# Altium integrated library Linear Technology Power Management Switching Regulator LTC1174-LTC3901.IntLib: 2647 symbols (part 94 of 364)
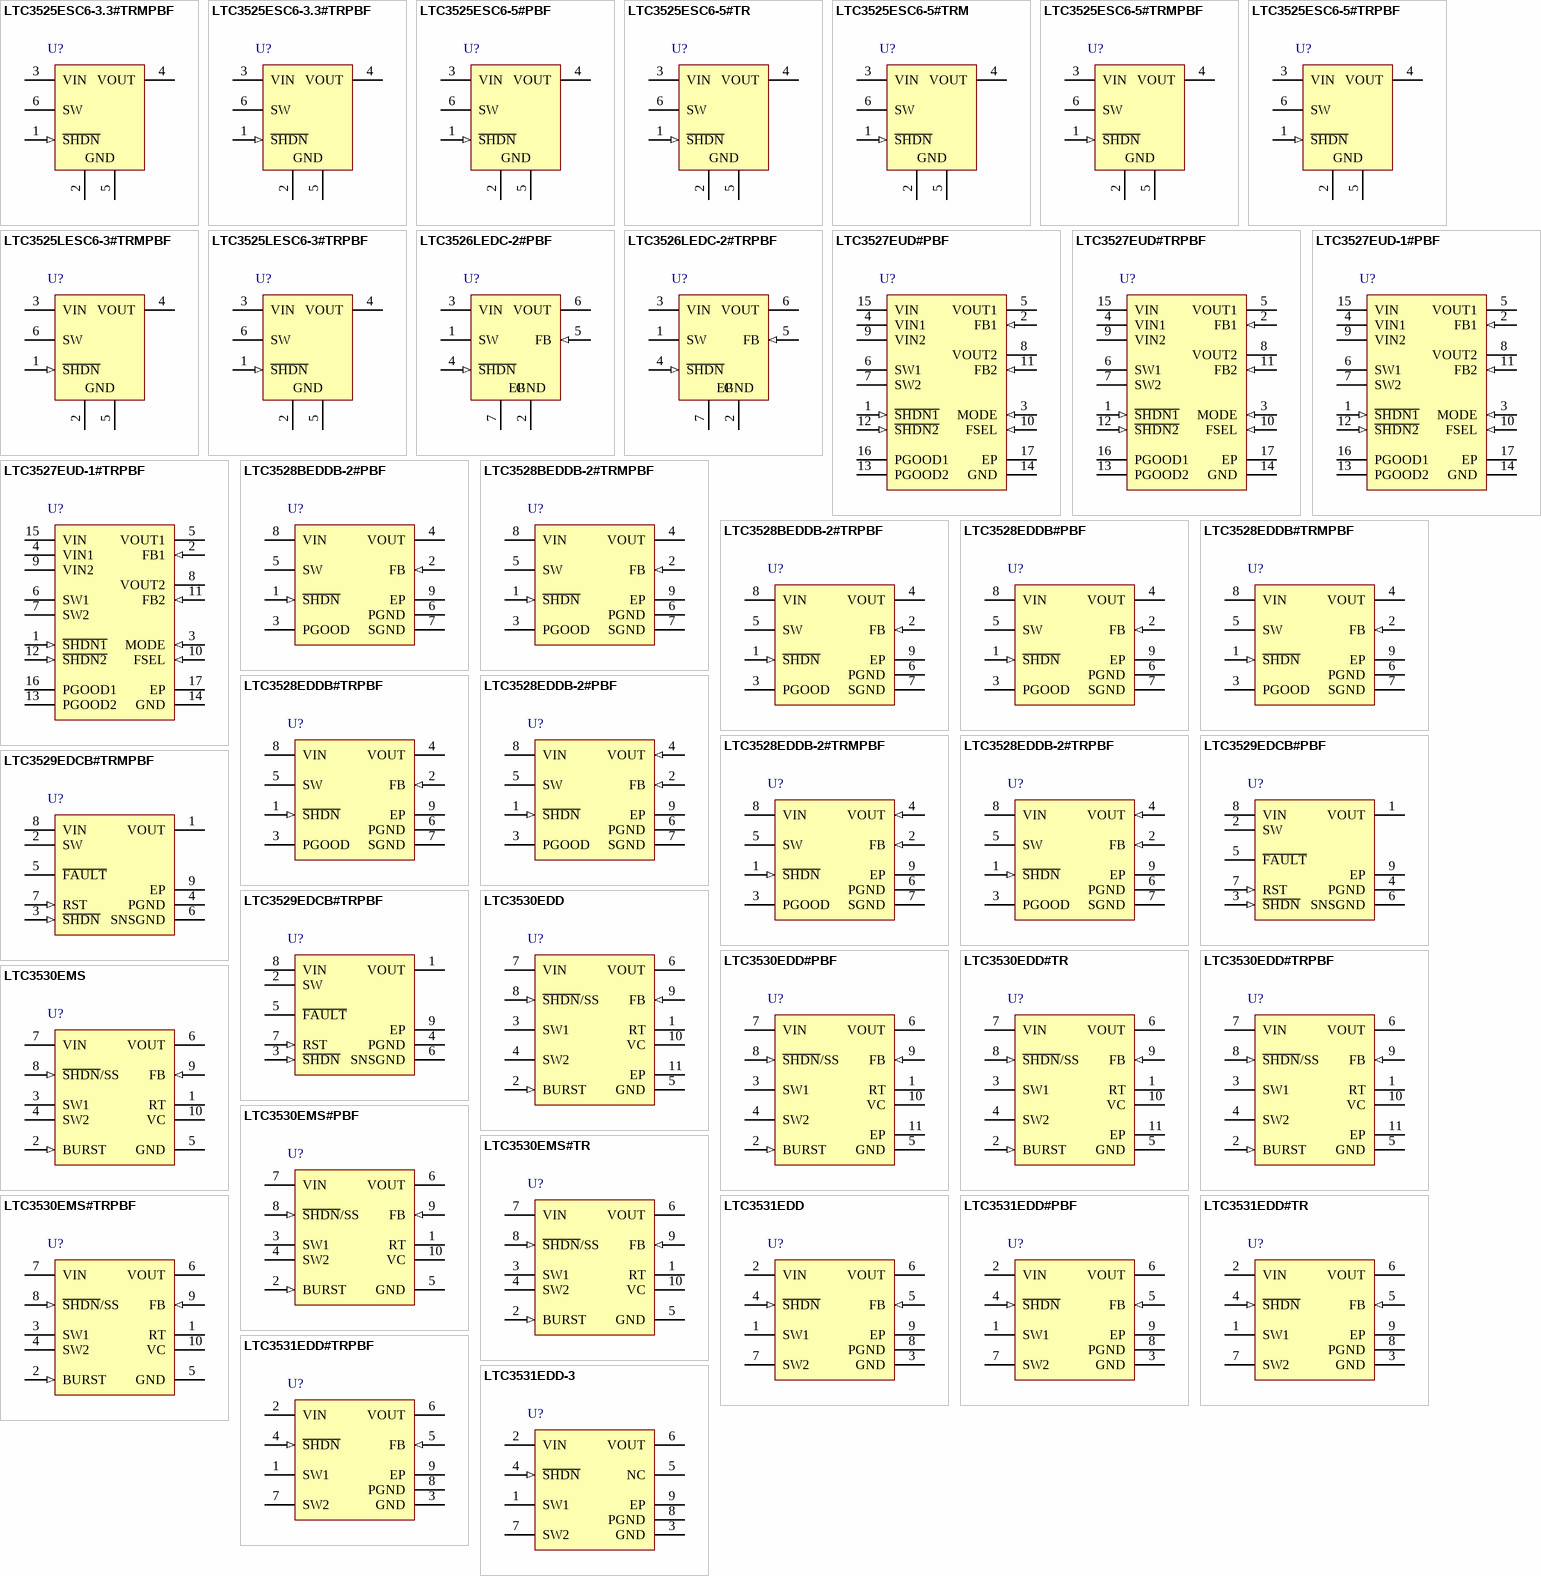
[diagram p163: symbols LTC3525ESC6-3.3#TRMPBF to LTC3531EDD-3]

## LTC3530EMS#PBF
designator U?
Wide Input Voltage Synchronous Buck-Boost DC/DC Converter, 10-pin SOP (MS-10), -40 to 85 degC, Pb-Free; Manufacturer: Linear Technology; PartNumber: LTC3530EMS#PBF; Frequency Adjust Range: 300kHz - 2MHz; Number of Outputs: 1; DatasheetVersion: Rev. B; PackageVersion: Rev. E, 06/2010; PackageReference: MS-10; PackageDescription: 10-Pin Plastic MSOP, Body 3 x 3 mm, Pitch 0.5 mm; Supplier 1: Digi-Key; Supplier Part Number 1: LTC3530EMS#PBF-ND; Supplier 2: Farnell; Supplier Part Number 2: 1329368; Supplier 3: Newark; Supplier Part Number 3: 56M7929; RoHS: TRUE; Mounting Technology: Surface Mount; ComponentLink1Description: Manufacturer URL; ComponentLink1URL: http://www.linear.com/; ComponentLink2Description: Datasheet; ComponentLink2URL: http://cds.linear.com/docs/en/datasheet/3530fb.pdf; ComponentLink3Description: Package Specification; ComponentLink3URL: http://cds.linear.com/docs/en/packaging/05081661_F_MS.pdf
footprint LT-MS-10_N (SOP, 10-Leads, Body 3.1x3.1mm, Pitch 0.5mm, IPC Medium Density)
footprint LT-MS-10_L (SOP, 10-Leads, Body 3.1x3.1mm, Pitch 0.5mm, IPC High Density)
footprint LT-MS-10_M (SOP, 10-Leads, Body 3.1x3.1mm, Pitch 0.5mm, IPC Low Density)
pins: 1 RT, 2 BURST (in) "Used to Set the Automatic Burst Mode Operation Threshold. Place a resistor and capacitor in parallel from this pin to ground. See the Applications Information section for component value selection. For manual control, ground (See Datasheet)", 3 SW1 "Switch Pin Where the Internal Switches A and B are Connected. Connect inductor from SW1 to SW2. An optional Schottky diode can be connected from SW1 to ground. Minimize trace length to minimize EMI.", 4 SW2 "Switch Pin Where the Internal Switches C and D are Connected. For applications with output voltages over 4.3V, a Schottky diode is required from SW2 to VOUT to ensure SW2 does not exhibit excess voltage.", 5 GND (power) "Signal and Power Ground for the IC.", 6 VOUT (power) "Output of the Synchronous Rectifier. A filter capacitor is placed from VOUT to GND.", 7 VIN (power) "Input Supply Pin. Supplies current to the inductor through SW1 and supplies internal VCC for the IC. A ceramic bypass capacitor as close to the VIN pin and GND (Pin 5) is required.", 8 ~{SHDN}/SS (in), 9 FB (in), 10 VC "Error Amp Output: A frequency compensation network is connected from this pin to the FB pin to compensate the loop. Refer to the Applications Information section for component value selection."

## LTC3530EMS#TR
designator U?
Wide Input Voltage Synchronous Buck-Boost DC/DC Converter, 10-pin SOP (MS-10), -40 to 85 degC, Tape and Reel; Manufacturer: Linear Technology; PartNumber: LTC3530EMS#TR; Frequency Adjust Range: 300kHz - 2MHz; Number of Outputs: 1; DatasheetVersion: Rev. B; PackageVersion: Rev. E, 06/2010; PackageReference: MS-10; PackageDescription: 10-Pin Plastic MSOP, Body 3 x 3 mm, Pitch 0.5 mm; Packing: Tape and Reel; RoHS: FALSE; Mounting Technology: Surface Mount; ComponentLink1Description: Manufacturer URL; ComponentLink1URL: http://www.linear.com/; ComponentLink2Description: Datasheet; ComponentLink2URL: http://cds.linear.com/docs/en/datasheet/3530fb.pdf; ComponentLink3Description: Package Specification; ComponentLink3URL: http://cds.linear.com/docs/en/packaging/05081661_F_MS.pdf
footprint LT-MS-10_N (SOP, 10-Leads, Body 3.1x3.1mm, Pitch 0.5mm, IPC Medium Density)
footprint LT-MS-10_L (SOP, 10-Leads, Body 3.1x3.1mm, Pitch 0.5mm, IPC High Density)
footprint LT-MS-10_M (SOP, 10-Leads, Body 3.1x3.1mm, Pitch 0.5mm, IPC Low Density)
pins: 1 RT, 2 BURST (in) "Used to Set the Automatic Burst Mode Operation Threshold. Place a resistor and capacitor in parallel from this pin to ground. See the Applications Information section for component value selection. For manual control, ground (See Datasheet)", 3 SW1 "Switch Pin Where the Internal Switches A and B are Connected. Connect inductor from SW1 to SW2. An optional Schottky diode can be connected from SW1 to ground. Minimize trace length to minimize EMI.", 4 SW2 "Switch Pin Where the Internal Switches C and D are Connected. For applications with output voltages over 4.3V, a Schottky diode is required from SW2 to VOUT to ensure SW2 does not exhibit excess voltage.", 5 GND (power) "Signal and Power Ground for the IC.", 6 VOUT (power) "Output of the Synchronous Rectifier. A filter capacitor is placed from VOUT to GND.", 7 VIN (power) "Input Supply Pin. Supplies current to the inductor through SW1 and supplies internal VCC for the IC. A ceramic bypass capacitor as close to the VIN pin and GND (Pin 5) is required.", 8 ~{SHDN}/SS (in), 9 FB (in), 10 VC "Error Amp Output: A frequency compensation network is connected from this pin to the FB pin to compensate the loop. Refer to the Applications Information section for component value selection."

## LTC3530EMS#TRPBF
designator U?
Wide Input Voltage Synchronous Buck-Boost DC/DC Converter, 10-pin SOP (MS-10), -40 to 85 degC, Pb-Free, Tape and Reel; Manufacturer: Linear Technology; PartNumber: LTC3530EMS#TRPBF; Frequency Adjust Range: 300kHz - 2MHz; Number of Outputs: 1; DatasheetVersion: Rev. B; PackageVersion: Rev. E, 06/2010; PackageReference: MS-10; PackageDescription: 10-Pin Plastic MSOP, Body 3 x 3 mm, Pitch 0.5 mm; Supplier 1: Digi-Key; Supplier Part Number 1: LTC3530EMS#TRPBF-ND; Supplier 2: Newark; Supplier Part Number 2: 56M7931; Packing: Tape and Reel; RoHS: TRUE; Mounting Technology: Surface Mount; ComponentLink1Description: Manufacturer URL; ComponentLink1URL: http://www.linear.com/; ComponentLink2Description: Datasheet; ComponentLink2URL: http://cds.linear.com/docs/en/datasheet/3530fb.pdf; ComponentLink3Description: Package Specification; ComponentLink3URL: http://cds.linear.com/docs/en/packaging/05081661_F_MS.pdf
footprint LT-MS-10_N (SOP, 10-Leads, Body 3.1x3.1mm, Pitch 0.5mm, IPC Medium Density)
footprint LT-MS-10_L (SOP, 10-Leads, Body 3.1x3.1mm, Pitch 0.5mm, IPC High Density)
footprint LT-MS-10_M (SOP, 10-Leads, Body 3.1x3.1mm, Pitch 0.5mm, IPC Low Density)
pins: 1 RT, 2 BURST (in) "Used to Set the Automatic Burst Mode Operation Threshold. Place a resistor and capacitor in parallel from this pin to ground. See the Applications Information section for component value selection. For manual control, ground (See Datasheet)", 3 SW1 "Switch Pin Where the Internal Switches A and B are Connected. Connect inductor from SW1 to SW2. An optional Schottky diode can be connected from SW1 to ground. Minimize trace length to minimize EMI.", 4 SW2 "Switch Pin Where the Internal Switches C and D are Connected. For applications with output voltages over 4.3V, a Schottky diode is required from SW2 to VOUT to ensure SW2 does not exhibit excess voltage.", 5 GND (power) "Signal and Power Ground for the IC.", 6 VOUT (power) "Output of the Synchronous Rectifier. A filter capacitor is placed from VOUT to GND.", 7 VIN (power) "Input Supply Pin. Supplies current to the inductor through SW1 and supplies internal VCC for the IC. A ceramic bypass capacitor as close to the VIN pin and GND (Pin 5) is required.", 8 ~{SHDN}/SS (in), 9 FB (in), 10 VC "Error Amp Output: A frequency compensation network is connected from this pin to the FB pin to compensate the loop. Refer to the Applications Information section for component value selection."

## LTC3531EDD
designator U?
200 mA Buck-Boost Synchronous DC/DC Converter, 8-pin SON (DD-8), -40 to 85 degC; Manufacturer: Linear Technology; PartNumber: LTC3531EDD; Number of Outputs: 1; DatasheetVersion: Rev. B; PackageVersion: Jun-10; PackageReference: DD-8; PackageDescription: 8-Pin Plastic DFN, Body 3 x 3 mm, Pitch 0.5 mm; RoHS: FALSE; Mounting Technology: Surface Mount; Code_JEDEC: MO-229; ComponentLink1Description: Manufacturer URL; ComponentLink1URL: http://www.linear.com/; ComponentLink2Description: Datasheet; ComponentLink2URL: http://cds.linear.com/docs/en/datasheet/3531fb.pdf; ComponentLink3Description: Package Specification; ComponentLink3URL: http://cds.linear.com/docs/en/packaging/DFN_8_05-08-1698.pdf
footprint LT-DD-8_V (SON, 8-Leads, Body 3x3mm, Pitch 0.5mm, Thermal Pad 1.65x2.38 mm)
pins: 1 SW1 "Buck-Boost Switch Pin Where Internal Switches A and B are Connected. Connect the inductor from SW1 to SW2.", 2 VIN (power) "Input Supply Pin for the Buck-Boost Converter. A minimum 2.2uF Ceramic Capacitor should be placed between VIN and GND.", 3 GND (power) "Signal Ground for the IC.", 4 ~{SHDN} (in) "External Shutdown Pin. An applied voltage of < 0.4V shuts down the converter. A voltage above >1.4V will enable the converter.", 5 FB (in) "Feedback Pin for the Adjustable Version. Connect the resistor divider tap here. The output voltage can be adjusted from 2V to 5V.", 6 VOUT (power) "Output of the Buck-Boost Synchronous Rectifier. A filter capacitor is placed from VOUT to GND. A ceramic bypass capacitor is recommended as close to the VOUT and GND pins as possible.", 7 SW2 "Buck-Boost Switch Pin Where Internal Switches C and D are Connected. An optional Schottky diode can be connected from SW2 to VOUT for a moderate efficiency improvement. Minimize trace length to keep EMI down.", 8 PGND (power) "Power Ground for the IC. (Shared on ThinSOT version)", 9 EP (power) "Solder to PCB ground for optimal thermal performance."

## LTC3531EDD#PBF
designator U?
200 mA Buck-Boost Synchronous DC/DC Converter, 8-pin SON (DD-8), -40 to 85 degC, Pb-Free; Manufacturer: Linear Technology; PartNumber: LTC3531EDD#PBF; Number of Outputs: 1; DatasheetVersion: Rev. B; PackageVersion: Jun-10; PackageReference: DD-8; PackageDescription: 8-Pin Plastic DFN, Body 3 x 3 mm, Pitch 0.5 mm; Supplier 1: Digi-Key; Supplier Part Number 1: LTC3531EDD#PBF-ND; Supplier 2: Farnell; Supplier Part Number 2: 1663711; Supplier 3: Newark; Supplier Part Number 3: 56M7941; RoHS: TRUE; Mounting Technology: Surface Mount; Code_JEDEC: MO-229; ComponentLink1Description: Manufacturer URL; ComponentLink1URL: http://www.linear.com/; ComponentLink2Description: Datasheet; ComponentLink2URL: http://cds.linear.com/docs/en/datasheet/3531fb.pdf; ComponentLink3Description: Package Specification; ComponentLink3URL: http://cds.linear.com/docs/en/packaging/DFN_8_05-08-1698.pdf
footprint LT-DD-8_V (SON, 8-Leads, Body 3x3mm, Pitch 0.5mm, Thermal Pad 1.65x2.38 mm)
pins: 1 SW1 "Buck-Boost Switch Pin Where Internal Switches A and B are Connected. Connect the inductor from SW1 to SW2.", 2 VIN (power) "Input Supply Pin for the Buck-Boost Converter. A minimum 2.2uF Ceramic Capacitor should be placed between VIN and GND.", 3 GND (power) "Signal Ground for the IC.", 4 ~{SHDN} (in) "External Shutdown Pin. An applied voltage of < 0.4V shuts down the converter. A voltage above >1.4V will enable the converter.", 5 FB (in) "Feedback Pin for the Adjustable Version. Connect the resistor divider tap here. The output voltage can be adjusted from 2V to 5V.", 6 VOUT (power) "Output of the Buck-Boost Synchronous Rectifier. A filter capacitor is placed from VOUT to GND. A ceramic bypass capacitor is recommended as close to the VOUT and GND pins as possible.", 7 SW2 "Buck-Boost Switch Pin Where Internal Switches C and D are Connected. An optional Schottky diode can be connected from SW2 to VOUT for a moderate efficiency improvement. Minimize trace length to keep EMI down.", 8 PGND (power) "Power Ground for the IC. (Shared on ThinSOT version)", 9 EP (power) "Solder to PCB ground for optimal thermal performance."

## LTC3531EDD#TR
designator U?
200 mA Buck-Boost Synchronous DC/DC Converter, 8-pin SON (DD-8), -40 to 85 degC, Tape and Reel; Manufacturer: Linear Technology; PartNumber: LTC3531EDD#TR; Number of Outputs: 1; DatasheetVersion: Rev. B; PackageVersion: Jun-10; PackageReference: DD-8; PackageDescription: 8-Pin Plastic DFN, Body 3 x 3 mm, Pitch 0.5 mm; Packing: Tape and Reel; RoHS: FALSE; Mounting Technology: Surface Mount; Code_JEDEC: MO-229; ComponentLink1Description: Manufacturer URL; ComponentLink1URL: http://www.linear.com/; ComponentLink2Description: Datasheet; ComponentLink2URL: http://cds.linear.com/docs/en/datasheet/3531fb.pdf; ComponentLink3Description: Package Specification; ComponentLink3URL: http://cds.linear.com/docs/en/packaging/DFN_8_05-08-1698.pdf
footprint LT-DD-8_V (SON, 8-Leads, Body 3x3mm, Pitch 0.5mm, Thermal Pad 1.65x2.38 mm)
pins: 1 SW1 "Buck-Boost Switch Pin Where Internal Switches A and B are Connected. Connect the inductor from SW1 to SW2.", 2 VIN (power) "Input Supply Pin for the Buck-Boost Converter. A minimum 2.2uF Ceramic Capacitor should be placed between VIN and GND.", 3 GND (power) "Signal Ground for the IC.", 4 ~{SHDN} (in) "External Shutdown Pin. An applied voltage of < 0.4V shuts down the converter. A voltage above >1.4V will enable the converter.", 5 FB (in) "Feedback Pin for the Adjustable Version. Connect the resistor divider tap here. The output voltage can be adjusted from 2V to 5V.", 6 VOUT (power) "Output of the Buck-Boost Synchronous Rectifier. A filter capacitor is placed from VOUT to GND. A ceramic bypass capacitor is recommended as close to the VOUT and GND pins as possible.", 7 SW2 "Buck-Boost Switch Pin Where Internal Switches C and D are Connected. An optional Schottky diode can be connected from SW2 to VOUT for a moderate efficiency improvement. Minimize trace length to keep EMI down.", 8 PGND (power) "Power Ground for the IC. (Shared on ThinSOT version)", 9 EP (power) "Solder to PCB ground for optimal thermal performance."

## LTC3531EDD#TRPBF
designator U?
200 mA Buck-Boost Synchronous DC/DC Converter, 8-pin SON (DD-8), -40 to 85 degC, Pb-Free, Tape and Reel; Manufacturer: Linear Technology; PartNumber: LTC3531EDD#TRPBF; Number of Outputs: 1; DatasheetVersion: Rev. B; PackageVersion: Jun-10; PackageReference: DD-8; PackageDescription: 8-Pin Plastic DFN, Body 3 x 3 mm, Pitch 0.5 mm; Supplier 1: Digi-Key; Supplier Part Number 1: LTC3531EDD#TRPBF-ND; Packing: Tape and Reel; RoHS: TRUE; Mounting Technology: Surface Mount; Code_JEDEC: MO-229; ComponentLink1Description: Manufacturer URL; ComponentLink1URL: http://www.linear.com/; ComponentLink2Description: Datasheet; ComponentLink2URL: http://cds.linear.com/docs/en/datasheet/3531fb.pdf; ComponentLink3Description: Package Specification; ComponentLink3URL: http://cds.linear.com/docs/en/packaging/DFN_8_05-08-1698.pdf
footprint LT-DD-8_V (SON, 8-Leads, Body 3x3mm, Pitch 0.5mm, Thermal Pad 1.65x2.38 mm)
pins: 1 SW1 "Buck-Boost Switch Pin Where Internal Switches A and B are Connected. Connect the inductor from SW1 to SW2.", 2 VIN (power) "Input Supply Pin for the Buck-Boost Converter. A minimum 2.2uF Ceramic Capacitor should be placed between VIN and GND.", 3 GND (power) "Signal Ground for the IC.", 4 ~{SHDN} (in) "External Shutdown Pin. An applied voltage of < 0.4V shuts down the converter. A voltage above >1.4V will enable the converter.", 5 FB (in) "Feedback Pin for the Adjustable Version. Connect the resistor divider tap here. The output voltage can be adjusted from 2V to 5V.", 6 VOUT (power) "Output of the Buck-Boost Synchronous Rectifier. A filter capacitor is placed from VOUT to GND. A ceramic bypass capacitor is recommended as close to the VOUT and GND pins as possible.", 7 SW2 "Buck-Boost Switch Pin Where Internal Switches C and D are Connected. An optional Schottky diode can be connected from SW2 to VOUT for a moderate efficiency improvement. Minimize trace length to keep EMI down.", 8 PGND (power) "Power Ground for the IC. (Shared on ThinSOT version)", 9 EP (power) "Solder to PCB ground for optimal thermal performance."

## LTC3531EDD-3
designator U?
200 mA Buck-Boost Synchronous DC/DC Converter, 8-pin SON (DD-8), -40 to 85 degC; Manufacturer: Linear Technology; PartNumber: LTC3531EDD-3; Number of Outputs: 1; DatasheetVersion: Rev. B; PackageVersion: Jun-10; PackageReference: DD-8; PackageDescription: 8-Pin Plastic DFN, Body 3 x 3 mm, Pitch 0.5 mm; RoHS: FALSE; Mounting Technology: Surface Mount; Code_JEDEC: MO-229; ComponentLink1Description: Manufacturer URL; ComponentLink1URL: http://www.linear.com/; ComponentLink2Description: Datasheet; ComponentLink2URL: http://cds.linear.com/docs/en/datasheet/3531fb.pdf; ComponentLink3Description: Package Specification; ComponentLink3URL: http://cds.linear.com/docs/en/packaging/DFN_8_05-08-1698.pdf
footprint LT-DD-8_V (SON, 8-Leads, Body 3x3mm, Pitch 0.5mm, Thermal Pad 1.65x2.38 mm)
pins: 1 SW1 "Buck-Boost Switch Pin Where Internal Switches A and B are Connected. Connect the inductor from SW1 to SW2.", 2 VIN (power) "Input Supply Pin for the Buck-Boost Converter. A minimum 2.2uF Ceramic Capacitor should be placed between VIN and GND.", 3 GND (power) "Signal Ground for the IC.", 4 ~{SHDN} (in) "External Shutdown Pin. An applied voltage of < 0.4V shuts down the converter. A voltage above >1.4V will enable the converter.", 5 NC, 6 VOUT (power) "Output of the Buck-Boost Synchronous Rectifier. A filter capacitor is placed from VOUT to GND. A ceramic bypass capacitor is recommended as close to the VOUT and GND pins as possible.", 7 SW2 "Buck-Boost Switch Pin Where Internal Switches C and D are Connected. An optional Schottky diode can be connected from SW2 to VOUT for a moderate efficiency improvement. Minimize trace length to keep EMI down.", 8 PGND (power) "Power Ground for the IC. (Shared on ThinSOT version)", 9 EP (power) "Solder to PCB ground for optimal thermal performance."

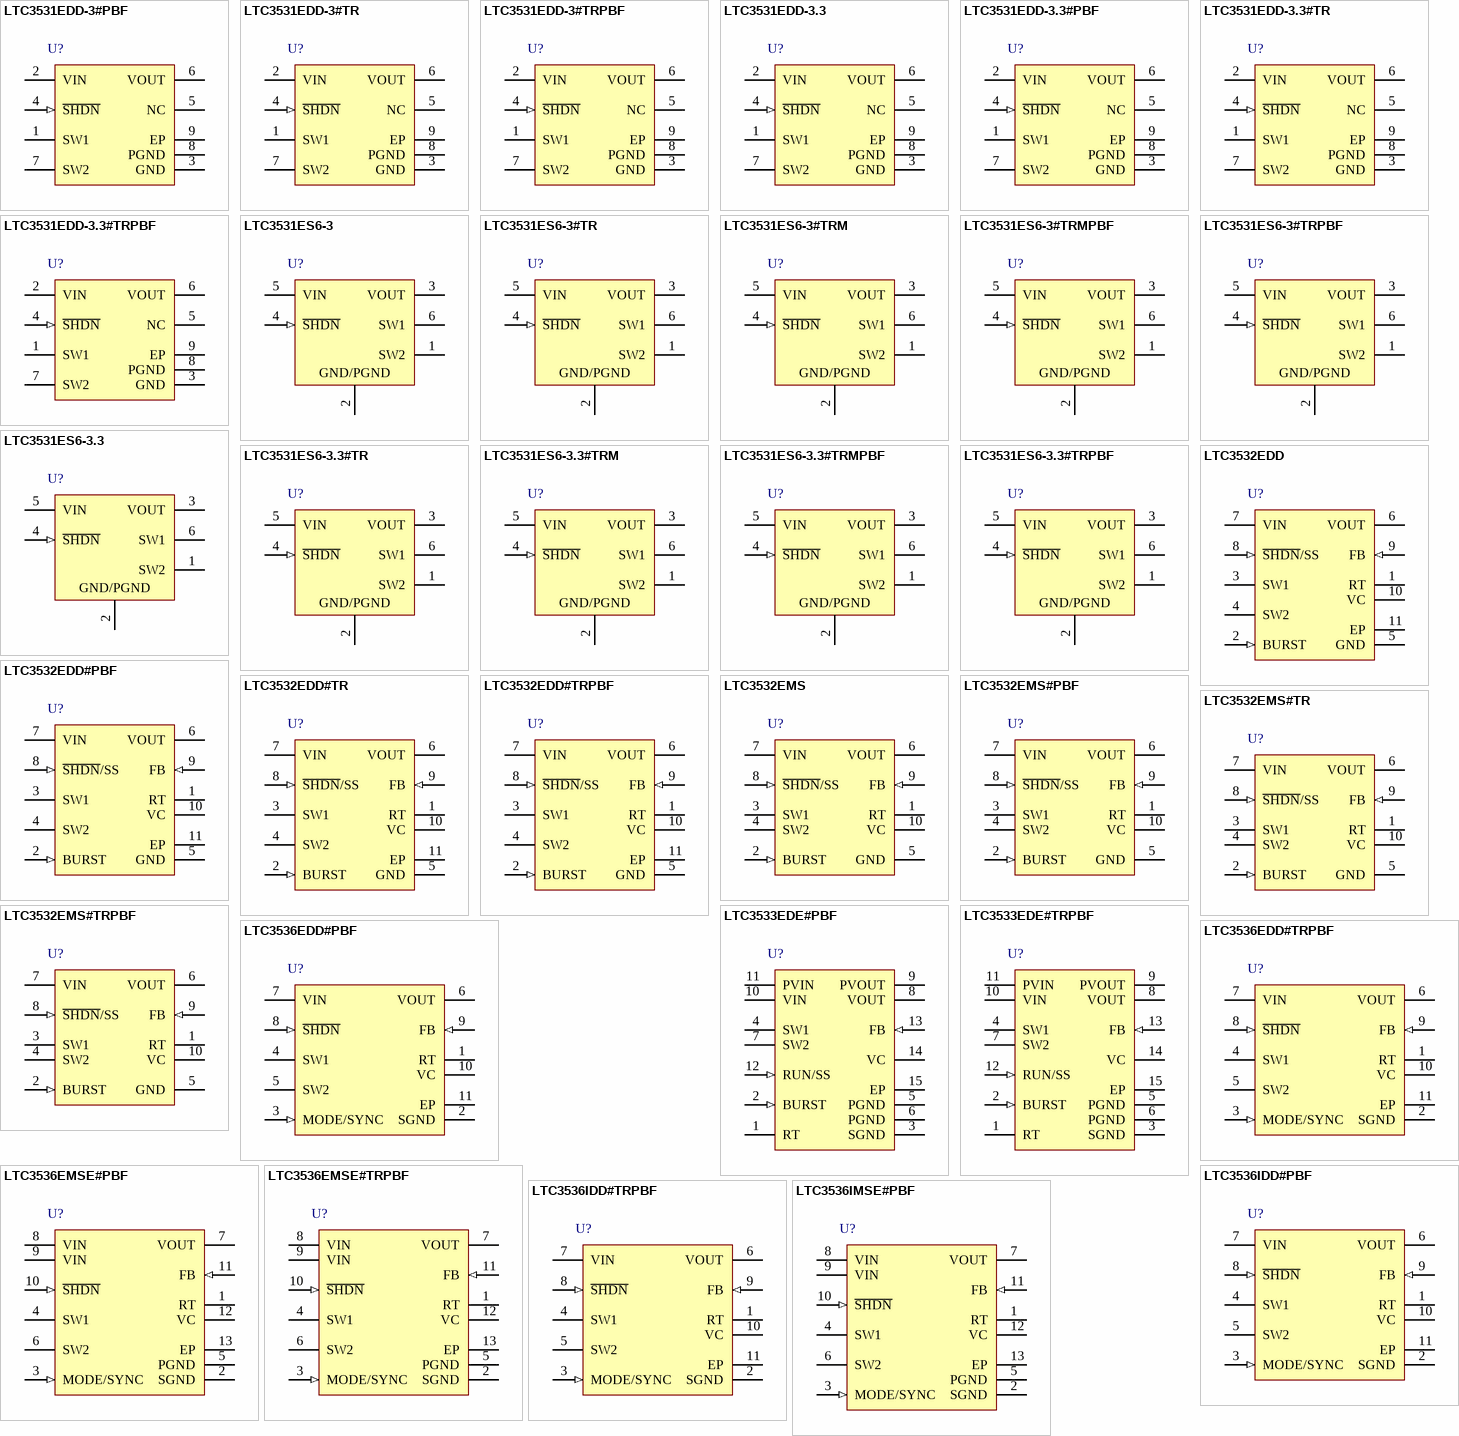
[diagram p30: symbols LTC3531EDD-3#PBF to LTC3536IMSE#PBF]

## LTC3531EDD-3#PBF
designator U?
200 mA Buck-Boost Synchronous DC/DC Converter, 8-pin SON (DD-8), -40 to 85 degC, Pb-Free; Manufacturer: Linear Technology; PartNumber: LTC3531EDD-3#PBF; Number of Outputs: 1; DatasheetVersion: Rev. B; PackageVersion: Jun-10; PackageReference: DD-8; PackageDescription: 8-Pin Plastic DFN, Body 3 x 3 mm, Pitch 0.5 mm; Supplier 1: Digi-Key; Supplier Part Number 1: LTC3531EDD-3#PBF-ND; RoHS: TRUE; Mounting Technology: Surface Mount; Code_JEDEC: MO-229; ComponentLink1Description: Manufacturer URL; ComponentLink1URL: http://www.linear.com/; ComponentLink2Description: Datasheet; ComponentLink2URL: http://cds.linear.com/docs/en/datasheet/3531fb.pdf; ComponentLink3Description: Package Specification; ComponentLink3URL: http://cds.linear.com/docs/en/packaging/DFN_8_05-08-1698.pdf
footprint LT-DD-8_V (SON, 8-Leads, Body 3x3mm, Pitch 0.5mm, Thermal Pad 1.65x2.38 mm)
pins: 1 SW1 "Buck-Boost Switch Pin Where Internal Switches A and B are Connected. Connect the inductor from SW1 to SW2.", 2 VIN (power) "Input Supply Pin for the Buck-Boost Converter. A minimum 2.2uF Ceramic Capacitor should be placed between VIN and GND.", 3 GND (power) "Signal Ground for the IC.", 4 ~{SHDN} (in) "External Shutdown Pin. An applied voltage of < 0.4V shuts down the converter. A voltage above >1.4V will enable the converter.", 5 NC, 6 VOUT (power) "Output of the Buck-Boost Synchronous Rectifier. A filter capacitor is placed from VOUT to GND. A ceramic bypass capacitor is recommended as close to the VOUT and GND pins as possible.", 7 SW2 "Buck-Boost Switch Pin Where Internal Switches C and D are Connected. An optional Schottky diode can be connected from SW2 to VOUT for a moderate efficiency improvement. Minimize trace length to keep EMI down.", 8 PGND (power) "Power Ground for the IC. (Shared on ThinSOT version)", 9 EP (power) "Solder to PCB ground for optimal thermal performance."

## LTC3531EDD-3#TR
designator U?
200 mA Buck-Boost Synchronous DC/DC Converter, 8-pin SON (DD-8), -40 to 85 degC, Tape and Reel; Manufacturer: Linear Technology; PartNumber: LTC3531EDD-3#TR; Number of Outputs: 1; DatasheetVersion: Rev. B; PackageVersion: Jun-10; PackageReference: DD-8; PackageDescription: 8-Pin Plastic DFN, Body 3 x 3 mm, Pitch 0.5 mm; Packing: Tape and Reel; RoHS: FALSE; Mounting Technology: Surface Mount; Code_JEDEC: MO-229; ComponentLink1Description: Manufacturer URL; ComponentLink1URL: http://www.linear.com/; ComponentLink2Description: Datasheet; ComponentLink2URL: http://cds.linear.com/docs/en/datasheet/3531fb.pdf; ComponentLink3Description: Package Specification; ComponentLink3URL: http://cds.linear.com/docs/en/packaging/DFN_8_05-08-1698.pdf
footprint LT-DD-8_V (SON, 8-Leads, Body 3x3mm, Pitch 0.5mm, Thermal Pad 1.65x2.38 mm)
pins: 1 SW1 "Buck-Boost Switch Pin Where Internal Switches A and B are Connected. Connect the inductor from SW1 to SW2.", 2 VIN (power) "Input Supply Pin for the Buck-Boost Converter. A minimum 2.2uF Ceramic Capacitor should be placed between VIN and GND.", 3 GND (power) "Signal Ground for the IC.", 4 ~{SHDN} (in) "External Shutdown Pin. An applied voltage of < 0.4V shuts down the converter. A voltage above >1.4V will enable the converter.", 5 NC, 6 VOUT (power) "Output of the Buck-Boost Synchronous Rectifier. A filter capacitor is placed from VOUT to GND. A ceramic bypass capacitor is recommended as close to the VOUT and GND pins as possible.", 7 SW2 "Buck-Boost Switch Pin Where Internal Switches C and D are Connected. An optional Schottky diode can be connected from SW2 to VOUT for a moderate efficiency improvement. Minimize trace length to keep EMI down.", 8 PGND (power) "Power Ground for the IC. (Shared on ThinSOT version)", 9 EP (power) "Solder to PCB ground for optimal thermal performance."

## LTC3531EDD-3#TRPBF
designator U?
200 mA Buck-Boost Synchronous DC/DC Converter, 8-pin SON (DD-8), -40 to 85 degC, Pb-Free, Tape and Reel; Manufacturer: Linear Technology; PartNumber: LTC3531EDD-3#TRPBF; Number of Outputs: 1; DatasheetVersion: Rev. B; PackageVersion: Jun-10; PackageReference: DD-8; PackageDescription: 8-Pin Plastic DFN, Body 3 x 3 mm, Pitch 0.5 mm; Supplier 1: Digi-Key; Supplier Part Number 1: LTC3531EDD-3#TRPBF-ND; Packing: Tape and Reel; RoHS: TRUE; Mounting Technology: Surface Mount; Code_JEDEC: MO-229; ComponentLink1Description: Manufacturer URL; ComponentLink1URL: http://www.linear.com/; ComponentLink2Description: Datasheet; ComponentLink2URL: http://cds.linear.com/docs/en/datasheet/3531fb.pdf; ComponentLink3Description: Package Specification; ComponentLink3URL: http://cds.linear.com/docs/en/packaging/DFN_8_05-08-1698.pdf
footprint LT-DD-8_V (SON, 8-Leads, Body 3x3mm, Pitch 0.5mm, Thermal Pad 1.65x2.38 mm)
pins: 1 SW1 "Buck-Boost Switch Pin Where Internal Switches A and B are Connected. Connect the inductor from SW1 to SW2.", 2 VIN (power) "Input Supply Pin for the Buck-Boost Converter. A minimum 2.2uF Ceramic Capacitor should be placed between VIN and GND.", 3 GND (power) "Signal Ground for the IC.", 4 ~{SHDN} (in) "External Shutdown Pin. An applied voltage of < 0.4V shuts down the converter. A voltage above >1.4V will enable the converter.", 5 NC, 6 VOUT (power) "Output of the Buck-Boost Synchronous Rectifier. A filter capacitor is placed from VOUT to GND. A ceramic bypass capacitor is recommended as close to the VOUT and GND pins as possible.", 7 SW2 "Buck-Boost Switch Pin Where Internal Switches C and D are Connected. An optional Schottky diode can be connected from SW2 to VOUT for a moderate efficiency improvement. Minimize trace length to keep EMI down.", 8 PGND (power) "Power Ground for the IC. (Shared on ThinSOT version)", 9 EP (power) "Solder to PCB ground for optimal thermal performance."

## LTC3531EDD-3.3
designator U?
200 mA Buck-Boost Synchronous DC/DC Converter, 8-pin SON (DD-8), -40 to 85 degC; Manufacturer: Linear Technology; PartNumber: LTC3531EDD-3.3; Number of Outputs: 1; DatasheetVersion: Rev. B; PackageVersion: Jun-10; PackageReference: DD-8; PackageDescription: 8-Pin Plastic DFN, Body 3 x 3 mm, Pitch 0.5 mm; RoHS: FALSE; Mounting Technology: Surface Mount; Code_JEDEC: MO-229; ComponentLink1Description: Manufacturer URL; ComponentLink1URL: http://www.linear.com/; ComponentLink2Description: Datasheet; ComponentLink2URL: http://cds.linear.com/docs/en/datasheet/3531fb.pdf; ComponentLink3Description: Package Specification; ComponentLink3URL: http://cds.linear.com/docs/en/packaging/DFN_8_05-08-1698.pdf
footprint LT-DD-8_V (SON, 8-Leads, Body 3x3mm, Pitch 0.5mm, Thermal Pad 1.65x2.38 mm)
pins: 1 SW1 "Buck-Boost Switch Pin Where Internal Switches A and B are Connected. Connect the inductor from SW1 to SW2.", 2 VIN (power) "Input Supply Pin for the Buck-Boost Converter. A minimum 2.2uF Ceramic Capacitor should be placed between VIN and GND.", 3 GND (power) "Signal Ground for the IC.", 4 ~{SHDN} (in) "External Shutdown Pin. An applied voltage of < 0.4V shuts down the converter. A voltage above >1.4V will enable the converter.", 5 NC, 6 VOUT (power) "Output of the Buck-Boost Synchronous Rectifier. A filter capacitor is placed from VOUT to GND. A ceramic bypass capacitor is recommended as close to the VOUT and GND pins as possible.", 7 SW2 "Buck-Boost Switch Pin Where Internal Switches C and D are Connected. An optional Schottky diode can be connected from SW2 to VOUT for a moderate efficiency improvement. Minimize trace length to keep EMI down.", 8 PGND (power) "Power Ground for the IC. (Shared on ThinSOT version)", 9 EP (power) "Solder to PCB ground for optimal thermal performance."

## LTC3531EDD-3.3#PBF
designator U?
200 mA Buck-Boost Synchronous DC/DC Converter, 8-pin SON (DD-8), -40 to 85 degC, Pb-Free; Manufacturer: Linear Technology; PartNumber: LTC3531EDD-3.3#PBF; Number of Outputs: 1; DatasheetVersion: Rev. B; PackageVersion: Jun-10; PackageReference: DD-8; PackageDescription: 8-Pin Plastic DFN, Body 3 x 3 mm, Pitch 0.5 mm; Supplier 1: Digi-Key; Supplier Part Number 1: LTC3531EDD-3.3#PBF-ND; Supplier 2: Newark; Supplier Part Number 2: 56M7935; RoHS: TRUE; Mounting Technology: Surface Mount; Code_JEDEC: MO-229; ComponentLink1Description: Manufacturer URL; ComponentLink1URL: http://www.linear.com/; ComponentLink2Description: Datasheet; ComponentLink2URL: http://cds.linear.com/docs/en/datasheet/3531fb.pdf; ComponentLink3Description: Package Specification; ComponentLink3URL: http://cds.linear.com/docs/en/packaging/DFN_8_05-08-1698.pdf
footprint LT-DD-8_V (SON, 8-Leads, Body 3x3mm, Pitch 0.5mm, Thermal Pad 1.65x2.38 mm)
pins: 1 SW1 "Buck-Boost Switch Pin Where Internal Switches A and B are Connected. Connect the inductor from SW1 to SW2.", 2 VIN (power) "Input Supply Pin for the Buck-Boost Converter. A minimum 2.2uF Ceramic Capacitor should be placed between VIN and GND.", 3 GND (power) "Signal Ground for the IC.", 4 ~{SHDN} (in) "External Shutdown Pin. An applied voltage of < 0.4V shuts down the converter. A voltage above >1.4V will enable the converter.", 5 NC, 6 VOUT (power) "Output of the Buck-Boost Synchronous Rectifier. A filter capacitor is placed from VOUT to GND. A ceramic bypass capacitor is recommended as close to the VOUT and GND pins as possible.", 7 SW2 "Buck-Boost Switch Pin Where Internal Switches C and D are Connected. An optional Schottky diode can be connected from SW2 to VOUT for a moderate efficiency improvement. Minimize trace length to keep EMI down.", 8 PGND (power) "Power Ground for the IC. (Shared on ThinSOT version)", 9 EP (power) "Solder to PCB ground for optimal thermal performance."

## LTC3531EDD-3.3#TR
designator U?
200 mA Buck-Boost Synchronous DC/DC Converter, 8-pin SON (DD-8), -40 to 85 degC, Tape and Reel; Manufacturer: Linear Technology; PartNumber: LTC3531EDD-3.3#TR; Number of Outputs: 1; DatasheetVersion: Rev. B; PackageVersion: Jun-10; PackageReference: DD-8; PackageDescription: 8-Pin Plastic DFN, Body 3 x 3 mm, Pitch 0.5 mm; Packing: Tape and Reel; RoHS: FALSE; Mounting Technology: Surface Mount; Code_JEDEC: MO-229; ComponentLink1Description: Manufacturer URL; ComponentLink1URL: http://www.linear.com/; ComponentLink2Description: Datasheet; ComponentLink2URL: http://cds.linear.com/docs/en/datasheet/3531fb.pdf; ComponentLink3Description: Package Specification; ComponentLink3URL: http://cds.linear.com/docs/en/packaging/DFN_8_05-08-1698.pdf
footprint LT-DD-8_V (SON, 8-Leads, Body 3x3mm, Pitch 0.5mm, Thermal Pad 1.65x2.38 mm)
pins: 1 SW1 "Buck-Boost Switch Pin Where Internal Switches A and B are Connected. Connect the inductor from SW1 to SW2.", 2 VIN (power) "Input Supply Pin for the Buck-Boost Converter. A minimum 2.2uF Ceramic Capacitor should be placed between VIN and GND.", 3 GND (power) "Signal Ground for the IC.", 4 ~{SHDN} (in) "External Shutdown Pin. An applied voltage of < 0.4V shuts down the converter. A voltage above >1.4V will enable the converter.", 5 NC, 6 VOUT (power) "Output of the Buck-Boost Synchronous Rectifier. A filter capacitor is placed from VOUT to GND. A ceramic bypass capacitor is recommended as close to the VOUT and GND pins as possible.", 7 SW2 "Buck-Boost Switch Pin Where Internal Switches C and D are Connected. An optional Schottky diode can be connected from SW2 to VOUT for a moderate efficiency improvement. Minimize trace length to keep EMI down.", 8 PGND (power) "Power Ground for the IC. (Shared on ThinSOT version)", 9 EP (power) "Solder to PCB ground for optimal thermal performance."

## LTC3531EDD-3.3#TRPBF
designator U?
200 mA Buck-Boost Synchronous DC/DC Converter, 8-pin SON (DD-8), -40 to 85 degC, Pb-Free, Tape and Reel; Manufacturer: Linear Technology; PartNumber: LTC3531EDD-3.3#TRPBF; Number of Outputs: 1; DatasheetVersion: Rev. B; PackageVersion: Jun-10; PackageReference: DD-8; PackageDescription: 8-Pin Plastic DFN, Body 3 x 3 mm, Pitch 0.5 mm; Supplier 1: Digi-Key; Supplier Part Number 1: LTC3531EDD-3.3#TRPBF-ND; Supplier 2: Newark; Supplier Part Number 2: 56M7937; Packing: Tape and Reel; RoHS: TRUE; Mounting Technology: Surface Mount; Code_JEDEC: MO-229; ComponentLink1Description: Manufacturer URL; ComponentLink1URL: http://www.linear.com/; ComponentLink2Description: Datasheet; ComponentLink2URL: http://cds.linear.com/docs/en/datasheet/3531fb.pdf; ComponentLink3Description: Package Specification; ComponentLink3URL: http://cds.linear.com/docs/en/packaging/DFN_8_05-08-1698.pdf
footprint LT-DD-8_V (SON, 8-Leads, Body 3x3mm, Pitch 0.5mm, Thermal Pad 1.65x2.38 mm)
pins: 1 SW1 "Buck-Boost Switch Pin Where Internal Switches A and B are Connected. Connect the inductor from SW1 to SW2.", 2 VIN (power) "Input Supply Pin for the Buck-Boost Converter. A minimum 2.2uF Ceramic Capacitor should be placed between VIN and GND.", 3 GND (power) "Signal Ground for the IC.", 4 ~{SHDN} (in) "External Shutdown Pin. An applied voltage of < 0.4V shuts down the converter. A voltage above >1.4V will enable the converter.", 5 NC, 6 VOUT (power) "Output of the Buck-Boost Synchronous Rectifier. A filter capacitor is placed from VOUT to GND. A ceramic bypass capacitor is recommended as close to the VOUT and GND pins as possible.", 7 SW2 "Buck-Boost Switch Pin Where Internal Switches C and D are Connected. An optional Schottky diode can be connected from SW2 to VOUT for a moderate efficiency improvement. Minimize trace length to keep EMI down.", 8 PGND (power) "Power Ground for the IC. (Shared on ThinSOT version)", 9 EP (power) "Solder to PCB ground for optimal thermal performance."

## LTC3531ES6-3
designator U?
200 mA Buck-Boost Synchronous DC/DC Converter, 6-pin SOT23 (S6-6), -40 to 85 degC; Manufacturer: Linear Technology; PartNumber: LTC3531ES6-3; Number of Outputs: 1; DatasheetVersion: Rev. B; PackageVersion: Jun-10; PackageReference: S6-6; PackageDescription: 6-Pin Plastic TSOT-23, Body 2.9 x 1.63 mm, Pitch 0.95 mm; RoHS: FALSE; Mounting Technology: Surface Mount; Code_JEDEC: MO-193; ComponentLink1Description: Manufacturer URL; ComponentLink1URL: http://www.linear.com/; ComponentLink2Description: Datasheet; ComponentLink2URL: http://cds.linear.com/docs/en/datasheet/3531fb.pdf; ComponentLink3Description: Package Specification; ComponentLink3URL: http://cds.linear.com/docs/en/packaging/SOT_6_05-08-1636.pdf
footprint LT-S6-6-TSOT-23_N (SOT23, 6-Leads, Body 2.9x1.75mm, Pitch 0.95mm, IPC Medium Density)
footprint LT-S6-6-TSOT-23_L (SOT23, 6-Leads, Body 2.9x1.75mm, Pitch 0.95mm, IPC High Density)
footprint LT-S6-6-TSOT-23_M (SOT23, 6-Leads, Body 2.9x1.75mm, Pitch 0.95mm, IPC Low Density)
pins: 1 SW2 "Buck-Boost Switch Pin Where Internal Switches C and D are Connected. An optional Schottky diode can be connected from SW2 to VOUT for a moderate effi ciency improvement. Minimize trace length to keep EMI down.", 2 GND/PGND (power), 3 VOUT (power) "Output of the Buck-Boost Synchronous Rectifier. A filter capacitor is placed from VOUT to GND. A ceramic bypass capacitor is recommended as close to the VOUT and GND pins as possible", 4 ~{SHDN} (in) "External Shutdown Pin. An applied voltage of < 0.4V shuts down the converter. A voltage above >1.4V will enable the converter.", 5 VIN (power) "Input Supply Pin for the Buck-Boost Converter. A minimum 2.2uF Ceramic Capacitor should be placed between VIN and GND.", 6 SW1 "Buck-Boost Switch Pin Where Internal Switches A and B are Connected. Connect the inductor from SW1 to SW2."

## LTC3531ES6-3#TR
designator U?
200 mA Buck-Boost Synchronous DC/DC Converter, 6-pin SOT23 (S6-6), -40 to 85 degC, Tape and Reel; Manufacturer: Linear Technology; PartNumber: LTC3531ES6-3#TR; Number of Outputs: 1; DatasheetVersion: Rev. B; PackageVersion: Jun-10; PackageReference: S6-6; PackageDescription: 6-Pin Plastic TSOT-23, Body 2.9 x 1.63 mm, Pitch 0.95 mm; Packing: Tape and Reel; RoHS: FALSE; Mounting Technology: Surface Mount; Code_JEDEC: MO-193; ComponentLink1Description: Manufacturer URL; ComponentLink1URL: http://www.linear.com/; ComponentLink2Description: Datasheet; ComponentLink2URL: http://cds.linear.com/docs/en/datasheet/3531fb.pdf; ComponentLink3Description: Package Specification; ComponentLink3URL: http://cds.linear.com/docs/en/packaging/SOT_6_05-08-1636.pdf
footprint LT-S6-6-TSOT-23_N (SOT23, 6-Leads, Body 2.9x1.75mm, Pitch 0.95mm, IPC Medium Density)
footprint LT-S6-6-TSOT-23_L (SOT23, 6-Leads, Body 2.9x1.75mm, Pitch 0.95mm, IPC High Density)
footprint LT-S6-6-TSOT-23_M (SOT23, 6-Leads, Body 2.9x1.75mm, Pitch 0.95mm, IPC Low Density)
pins: 1 SW2 "Buck-Boost Switch Pin Where Internal Switches C and D are Connected. An optional Schottky diode can be connected from SW2 to VOUT for a moderate effi ciency improvement. Minimize trace length to keep EMI down.", 2 GND/PGND (power), 3 VOUT (power) "Output of the Buck-Boost Synchronous Rectifier. A filter capacitor is placed from VOUT to GND. A ceramic bypass capacitor is recommended as close to the VOUT and GND pins as possible", 4 ~{SHDN} (in) "External Shutdown Pin. An applied voltage of < 0.4V shuts down the converter. A voltage above >1.4V will enable the converter.", 5 VIN (power) "Input Supply Pin for the Buck-Boost Converter. A minimum 2.2uF Ceramic Capacitor should be placed between VIN and GND.", 6 SW1 "Buck-Boost Switch Pin Where Internal Switches A and B are Connected. Connect the inductor from SW1 to SW2."

## LTC3531ES6-3#TRM
designator U?
200 mA Buck-Boost Synchronous DC/DC Converter, 6-pin SOT23 (S6-6), -40 to 85 degC, Mini Tape and Reel; Manufacturer: Linear Technology; PartNumber: LTC3531ES6-3#TRM; Number of Outputs: 1; DatasheetVersion: Rev. B; PackageVersion: Jun-10; PackageReference: S6-6; PackageDescription: 6-Pin Plastic TSOT-23, Body 2.9 x 1.63 mm, Pitch 0.95 mm; Packing: Mini Tape and Reel; RoHS: FALSE; Mounting Technology: Surface Mount; Code_JEDEC: MO-193; ComponentLink1Description: Manufacturer URL; ComponentLink1URL: http://www.linear.com/; ComponentLink2Description: Datasheet; ComponentLink2URL: http://cds.linear.com/docs/en/datasheet/3531fb.pdf; ComponentLink3Description: Package Specification; ComponentLink3URL: http://cds.linear.com/docs/en/packaging/SOT_6_05-08-1636.pdf
footprint LT-S6-6-TSOT-23_N (SOT23, 6-Leads, Body 2.9x1.75mm, Pitch 0.95mm, IPC Medium Density)
footprint LT-S6-6-TSOT-23_L (SOT23, 6-Leads, Body 2.9x1.75mm, Pitch 0.95mm, IPC High Density)
footprint LT-S6-6-TSOT-23_M (SOT23, 6-Leads, Body 2.9x1.75mm, Pitch 0.95mm, IPC Low Density)
pins: 1 SW2 "Buck-Boost Switch Pin Where Internal Switches C and D are Connected. An optional Schottky diode can be connected from SW2 to VOUT for a moderate effi ciency improvement. Minimize trace length to keep EMI down.", 2 GND/PGND (power), 3 VOUT (power) "Output of the Buck-Boost Synchronous Rectifier. A filter capacitor is placed from VOUT to GND. A ceramic bypass capacitor is recommended as close to the VOUT and GND pins as possible", 4 ~{SHDN} (in) "External Shutdown Pin. An applied voltage of < 0.4V shuts down the converter. A voltage above >1.4V will enable the converter.", 5 VIN (power) "Input Supply Pin for the Buck-Boost Converter. A minimum 2.2uF Ceramic Capacitor should be placed between VIN and GND.", 6 SW1 "Buck-Boost Switch Pin Where Internal Switches A and B are Connected. Connect the inductor from SW1 to SW2."

## LTC3531ES6-3#TRMPBF
designator U?
200 mA Buck-Boost Synchronous DC/DC Converter, 6-pin SOT23 (S6-6), -40 to 85 degC, Pb-Free, Mini Tape and Reel; Manufacturer: Linear Technology; PartNumber: LTC3531ES6-3#TRMPBF; Number of Outputs: 1; DatasheetVersion: Rev. B; PackageVersion: Jun-10; PackageReference: S6-6; PackageDescription: 6-Pin Plastic TSOT-23, Body 2.9 x 1.63 mm, Pitch 0.95 mm; Supplier 1: Digi-Key; Supplier Part Number 1: LTC3531ES6-3#TRMPBF-ND; Packing: Mini Tape and Reel; RoHS: TRUE; Mounting Technology: Surface Mount; Code_JEDEC: MO-193; ComponentLink1Description: Manufacturer URL; ComponentLink1URL: http://www.linear.com/; ComponentLink2Description: Datasheet; ComponentLink2URL: http://cds.linear.com/docs/en/datasheet/3531fb.pdf; ComponentLink3Description: Package Specification; ComponentLink3URL: http://cds.linear.com/docs/en/packaging/SOT_6_05-08-1636.pdf
footprint LT-S6-6-TSOT-23_N (SOT23, 6-Leads, Body 2.9x1.75mm, Pitch 0.95mm, IPC Medium Density)
footprint LT-S6-6-TSOT-23_L (SOT23, 6-Leads, Body 2.9x1.75mm, Pitch 0.95mm, IPC High Density)
footprint LT-S6-6-TSOT-23_M (SOT23, 6-Leads, Body 2.9x1.75mm, Pitch 0.95mm, IPC Low Density)
pins: 1 SW2 "Buck-Boost Switch Pin Where Internal Switches C and D are Connected. An optional Schottky diode can be connected from SW2 to VOUT for a moderate effi ciency improvement. Minimize trace length to keep EMI down.", 2 GND/PGND (power), 3 VOUT (power) "Output of the Buck-Boost Synchronous Rectifier. A filter capacitor is placed from VOUT to GND. A ceramic bypass capacitor is recommended as close to the VOUT and GND pins as possible", 4 ~{SHDN} (in) "External Shutdown Pin. An applied voltage of < 0.4V shuts down the converter. A voltage above >1.4V will enable the converter.", 5 VIN (power) "Input Supply Pin for the Buck-Boost Converter. A minimum 2.2uF Ceramic Capacitor should be placed between VIN and GND.", 6 SW1 "Buck-Boost Switch Pin Where Internal Switches A and B are Connected. Connect the inductor from SW1 to SW2."

## LTC3531ES6-3#TRPBF
designator U?
200 mA Buck-Boost Synchronous DC/DC Converter, 6-pin SOT23 (S6-6), -40 to 85 degC, Pb-Free, Tape and Reel; Manufacturer: Linear Technology; PartNumber: LTC3531ES6-3#TRPBF; Number of Outputs: 1; DatasheetVersion: Rev. B; PackageVersion: Jun-10; PackageReference: S6-6; PackageDescription: 6-Pin Plastic TSOT-23, Body 2.9 x 1.63 mm, Pitch 0.95 mm; Supplier 1: Digi-Key; Supplier Part Number 1: LTC3531ES6-3#TRPBF-ND; Supplier 2: Newark; Supplier Part Number 2: 56M7951; Packing: Tape and Reel; RoHS: TRUE; Mounting Technology: Surface Mount; Code_JEDEC: MO-193; ComponentLink1Description: Manufacturer URL; ComponentLink1URL: http://www.linear.com/; ComponentLink2Description: Datasheet; ComponentLink2URL: http://cds.linear.com/docs/en/datasheet/3531fb.pdf; ComponentLink3Description: Package Specification; ComponentLink3URL: http://cds.linear.com/docs/en/packaging/SOT_6_05-08-1636.pdf
footprint LT-S6-6-TSOT-23_N (SOT23, 6-Leads, Body 2.9x1.75mm, Pitch 0.95mm, IPC Medium Density)
footprint LT-S6-6-TSOT-23_L (SOT23, 6-Leads, Body 2.9x1.75mm, Pitch 0.95mm, IPC High Density)
footprint LT-S6-6-TSOT-23_M (SOT23, 6-Leads, Body 2.9x1.75mm, Pitch 0.95mm, IPC Low Density)
pins: 1 SW2 "Buck-Boost Switch Pin Where Internal Switches C and D are Connected. An optional Schottky diode can be connected from SW2 to VOUT for a moderate effi ciency improvement. Minimize trace length to keep EMI down.", 2 GND/PGND (power), 3 VOUT (power) "Output of the Buck-Boost Synchronous Rectifier. A filter capacitor is placed from VOUT to GND. A ceramic bypass capacitor is recommended as close to the VOUT and GND pins as possible", 4 ~{SHDN} (in) "External Shutdown Pin. An applied voltage of < 0.4V shuts down the converter. A voltage above >1.4V will enable the converter.", 5 VIN (power) "Input Supply Pin for the Buck-Boost Converter. A minimum 2.2uF Ceramic Capacitor should be placed between VIN and GND.", 6 SW1 "Buck-Boost Switch Pin Where Internal Switches A and B are Connected. Connect the inductor from SW1 to SW2."

## LTC3531ES6-3.3
designator U?
200 mA Buck-Boost Synchronous DC/DC Converter, 6-pin SOT23 (S6-6), -40 to 85 degC; Manufacturer: Linear Technology; PartNumber: LTC3531ES6-3.3; Number of Outputs: 1; DatasheetVersion: Rev. B; PackageVersion: Jun-10; PackageReference: S6-6; PackageDescription: 6-Pin Plastic TSOT-23, Body 2.9 x 1.63 mm, Pitch 0.95 mm; RoHS: FALSE; Mounting Technology: Surface Mount; Code_JEDEC: MO-193; ComponentLink1Description: Manufacturer URL; ComponentLink1URL: http://www.linear.com/; ComponentLink2Description: Datasheet; ComponentLink2URL: http://cds.linear.com/docs/en/datasheet/3531fb.pdf; ComponentLink3Description: Package Specification; ComponentLink3URL: http://cds.linear.com/docs/en/packaging/SOT_6_05-08-1636.pdf
footprint LT-S6-6-TSOT-23_N (SOT23, 6-Leads, Body 2.9x1.75mm, Pitch 0.95mm, IPC Medium Density)
footprint LT-S6-6-TSOT-23_L (SOT23, 6-Leads, Body 2.9x1.75mm, Pitch 0.95mm, IPC High Density)
footprint LT-S6-6-TSOT-23_M (SOT23, 6-Leads, Body 2.9x1.75mm, Pitch 0.95mm, IPC Low Density)
pins: 1 SW2 "Buck-Boost Switch Pin Where Internal Switches C and D are Connected. An optional Schottky diode can be connected from SW2 to VOUT for a moderate effi ciency improvement. Minimize trace length to keep EMI down.", 2 GND/PGND (power), 3 VOUT (power) "Output of the Buck-Boost Synchronous Rectifier. A filter capacitor is placed from VOUT to GND. A ceramic bypass capacitor is recommended as close to the VOUT and GND pins as possible", 4 ~{SHDN} (in) "External Shutdown Pin. An applied voltage of < 0.4V shuts down the converter. A voltage above >1.4V will enable the converter.", 5 VIN (power) "Input Supply Pin for the Buck-Boost Converter. A minimum 2.2uF Ceramic Capacitor should be placed between VIN and GND.", 6 SW1 "Buck-Boost Switch Pin Where Internal Switches A and B are Connected. Connect the inductor from SW1 to SW2."

## LTC3531ES6-3.3#TR
designator U?
200 mA Buck-Boost Synchronous DC/DC Converter, 6-pin SOT23 (S6-6), -40 to 85 degC, Tape and Reel; Manufacturer: Linear Technology; PartNumber: LTC3531ES6-3.3#TR; Number of Outputs: 1; DatasheetVersion: Rev. B; PackageVersion: Jun-10; PackageReference: S6-6; PackageDescription: 6-Pin Plastic TSOT-23, Body 2.9 x 1.63 mm, Pitch 0.95 mm; Supplier 1: Newark; Supplier Part Number 1: 56M7944; Packing: Tape and Reel; RoHS: FALSE; Mounting Technology: Surface Mount; Code_JEDEC: MO-193; ComponentLink1Description: Manufacturer URL; ComponentLink1URL: http://www.linear.com/; ComponentLink2Description: Datasheet; ComponentLink2URL: http://cds.linear.com/docs/en/datasheet/3531fb.pdf; ComponentLink3Description: Package Specification; ComponentLink3URL: http://cds.linear.com/docs/en/packaging/SOT_6_05-08-1636.pdf
footprint LT-S6-6-TSOT-23_N (SOT23, 6-Leads, Body 2.9x1.75mm, Pitch 0.95mm, IPC Medium Density)
footprint LT-S6-6-TSOT-23_L (SOT23, 6-Leads, Body 2.9x1.75mm, Pitch 0.95mm, IPC High Density)
footprint LT-S6-6-TSOT-23_M (SOT23, 6-Leads, Body 2.9x1.75mm, Pitch 0.95mm, IPC Low Density)
pins: 1 SW2 "Buck-Boost Switch Pin Where Internal Switches C and D are Connected. An optional Schottky diode can be connected from SW2 to VOUT for a moderate effi ciency improvement. Minimize trace length to keep EMI down.", 2 GND/PGND (power), 3 VOUT (power) "Output of the Buck-Boost Synchronous Rectifier. A filter capacitor is placed from VOUT to GND. A ceramic bypass capacitor is recommended as close to the VOUT and GND pins as possible", 4 ~{SHDN} (in) "External Shutdown Pin. An applied voltage of < 0.4V shuts down the converter. A voltage above >1.4V will enable the converter.", 5 VIN (power) "Input Supply Pin for the Buck-Boost Converter. A minimum 2.2uF Ceramic Capacitor should be placed between VIN and GND.", 6 SW1 "Buck-Boost Switch Pin Where Internal Switches A and B are Connected. Connect the inductor from SW1 to SW2."

## LTC3531ES6-3.3#TRM
designator U?
200 mA Buck-Boost Synchronous DC/DC Converter, 6-pin SOT23 (S6-6), -40 to 85 degC, Mini Tape and Reel; Manufacturer: Linear Technology; PartNumber: LTC3531ES6-3.3#TRM; Number of Outputs: 1; DatasheetVersion: Rev. B; PackageVersion: Jun-10; PackageReference: S6-6; PackageDescription: 6-Pin Plastic TSOT-23, Body 2.9 x 1.63 mm, Pitch 0.95 mm; Packing: Mini Tape and Reel; RoHS: FALSE; Mounting Technology: Surface Mount; Code_JEDEC: MO-193; ComponentLink1Description: Manufacturer URL; ComponentLink1URL: http://www.linear.com/; ComponentLink2Description: Datasheet; ComponentLink2URL: http://cds.linear.com/docs/en/datasheet/3531fb.pdf; ComponentLink3Description: Package Specification; ComponentLink3URL: http://cds.linear.com/docs/en/packaging/SOT_6_05-08-1636.pdf
footprint LT-S6-6-TSOT-23_N (SOT23, 6-Leads, Body 2.9x1.75mm, Pitch 0.95mm, IPC Medium Density)
footprint LT-S6-6-TSOT-23_L (SOT23, 6-Leads, Body 2.9x1.75mm, Pitch 0.95mm, IPC High Density)
footprint LT-S6-6-TSOT-23_M (SOT23, 6-Leads, Body 2.9x1.75mm, Pitch 0.95mm, IPC Low Density)
pins: 1 SW2 "Buck-Boost Switch Pin Where Internal Switches C and D are Connected. An optional Schottky diode can be connected from SW2 to VOUT for a moderate effi ciency improvement. Minimize trace length to keep EMI down.", 2 GND/PGND (power), 3 VOUT (power) "Output of the Buck-Boost Synchronous Rectifier. A filter capacitor is placed from VOUT to GND. A ceramic bypass capacitor is recommended as close to the VOUT and GND pins as possible", 4 ~{SHDN} (in) "External Shutdown Pin. An applied voltage of < 0.4V shuts down the converter. A voltage above >1.4V will enable the converter.", 5 VIN (power) "Input Supply Pin for the Buck-Boost Converter. A minimum 2.2uF Ceramic Capacitor should be placed between VIN and GND.", 6 SW1 "Buck-Boost Switch Pin Where Internal Switches A and B are Connected. Connect the inductor from SW1 to SW2."

## LTC3531ES6-3.3#TRMPBF
designator U?
200 mA Buck-Boost Synchronous DC/DC Converter, 6-pin SOT23 (S6-6), -40 to 85 degC, Pb-Free, Mini Tape and Reel; Manufacturer: Linear Technology; PartNumber: LTC3531ES6-3.3#TRMPBF; Number of Outputs: 1; DatasheetVersion: Rev. B; PackageVersion: Jun-10; PackageReference: S6-6; PackageDescription: 6-Pin Plastic TSOT-23, Body 2.9 x 1.63 mm, Pitch 0.95 mm; Supplier 1: Digi-Key; Supplier Part Number 1: LTC3531ES6-3.3#TRMPBF-ND; Supplier 2: Newark; Supplier Part Number 2: 56M7946; Packing: Mini Tape and Reel; RoHS: TRUE; Mounting Technology: Surface Mount; Code_JEDEC: MO-193; ComponentLink1Description: Manufacturer URL; ComponentLink1URL: http://www.linear.com/; ComponentLink2Description: Datasheet; ComponentLink2URL: http://cds.linear.com/docs/en/datasheet/3531fb.pdf; ComponentLink3Description: Package Specification; ComponentLink3URL: http://cds.linear.com/docs/en/packaging/SOT_6_05-08-1636.pdf
footprint LT-S6-6-TSOT-23_N (SOT23, 6-Leads, Body 2.9x1.75mm, Pitch 0.95mm, IPC Medium Density)
footprint LT-S6-6-TSOT-23_L (SOT23, 6-Leads, Body 2.9x1.75mm, Pitch 0.95mm, IPC High Density)
footprint LT-S6-6-TSOT-23_M (SOT23, 6-Leads, Body 2.9x1.75mm, Pitch 0.95mm, IPC Low Density)
pins: 1 SW2 "Buck-Boost Switch Pin Where Internal Switches C and D are Connected. An optional Schottky diode can be connected from SW2 to VOUT for a moderate effi ciency improvement. Minimize trace length to keep EMI down.", 2 GND/PGND (power), 3 VOUT (power) "Output of the Buck-Boost Synchronous Rectifier. A filter capacitor is placed from VOUT to GND. A ceramic bypass capacitor is recommended as close to the VOUT and GND pins as possible", 4 ~{SHDN} (in) "External Shutdown Pin. An applied voltage of < 0.4V shuts down the converter. A voltage above >1.4V will enable the converter.", 5 VIN (power) "Input Supply Pin for the Buck-Boost Converter. A minimum 2.2uF Ceramic Capacitor should be placed between VIN and GND.", 6 SW1 "Buck-Boost Switch Pin Where Internal Switches A and B are Connected. Connect the inductor from SW1 to SW2."